# Altium integrated library REF3225AMDBVREPG4.IntLib: 1 symbol
Pins are listed as number, name and electrical type; pins without a type are passive.

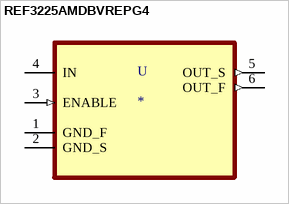
[diagram p0: symbol REF3225AMDBVREPG4]

## REF3225AMDBVREPG4
designator U
Увеличенный продукт 4 Ppm/Degreesc 100 UA Sot23-6 серия справки напряжения тока 6-SOT-23 -55 до 125; MF: Texas Instruments; MP: REF3225AMDBVREPG4
footprint SOT95P280X145-6N
pins: 1 GND_F, 2 GND_S, 3 ENABLE (in), 4 IN (power), 5 OUT_S (out), 6 OUT_F (out)